# Altium schematic symbol library LED_NEOPIXEL.SchLib: 1 symbol
Pins are listed as number, name and electrical type; pins without a type are passive.

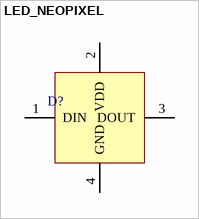
[diagram p0: symbol LED_NEOPIXEL]

## LED_NEOPIXEL
designator D?  (value not drawn)
pins: 1 DIN, 2 VDD, 3 DOUT, 4 GND